# Altium footprint library Fiducial.PCBLIB: 1 footprints
Each footprint in its own frame and in the unit in brackets; x right, y up, seen from the top. Pads: shape width x height; smd on the part's side, far side on the other; paste and mask are expansions set on the pad; w line width, h text height; cw(c..) or ccw(c..) is an arc to the next point about the centre after c.
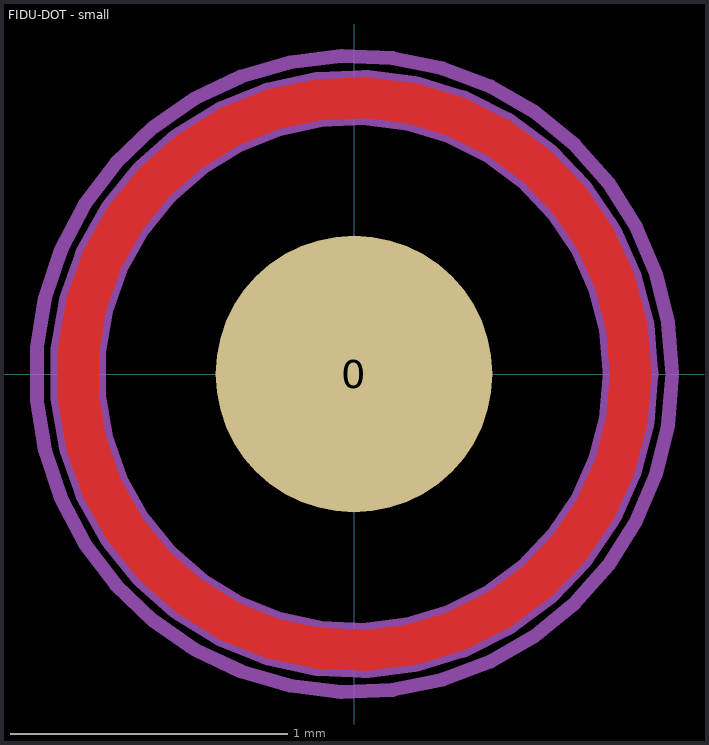
[diagram p0: the footprint, top view; thin cyan lines are the x and y axes]

## FIDU-DOT - small [mm]
height 4.2
pads (1):
  round 1 smd paste-1: 0(0,0)
Top Layer:
  circle w0.15: c0,0 r1
Top Solder:
  circle w2: c0,0 r0.1
Top Assembly:
  circle w0.2: c0,0 r1
Top Courtyard:
  circle w0.05: c0,0 r1.15
Top Designator:
  text ".Designator" at -0.2,0.6 h0.5
Top Component Center:
  circle w0.005: c0,0 r1.075
3D body: height 0.01, standoff 0, extent -0.5,-0.5 0.5,0.5